# Altium footprint library GRC PCB library.PcbLib: 166 footprints (part 3 of 11)
Each footprint in its own frame and in the unit in brackets; x right, y up, seen from the top. Pads: shape width x height; smd on the part's side, far side on the other; paste and mask are expansions set on the pad; w line width, h text height; cw(c..) or ccw(c..) is an arc to the next point about the centre after c.
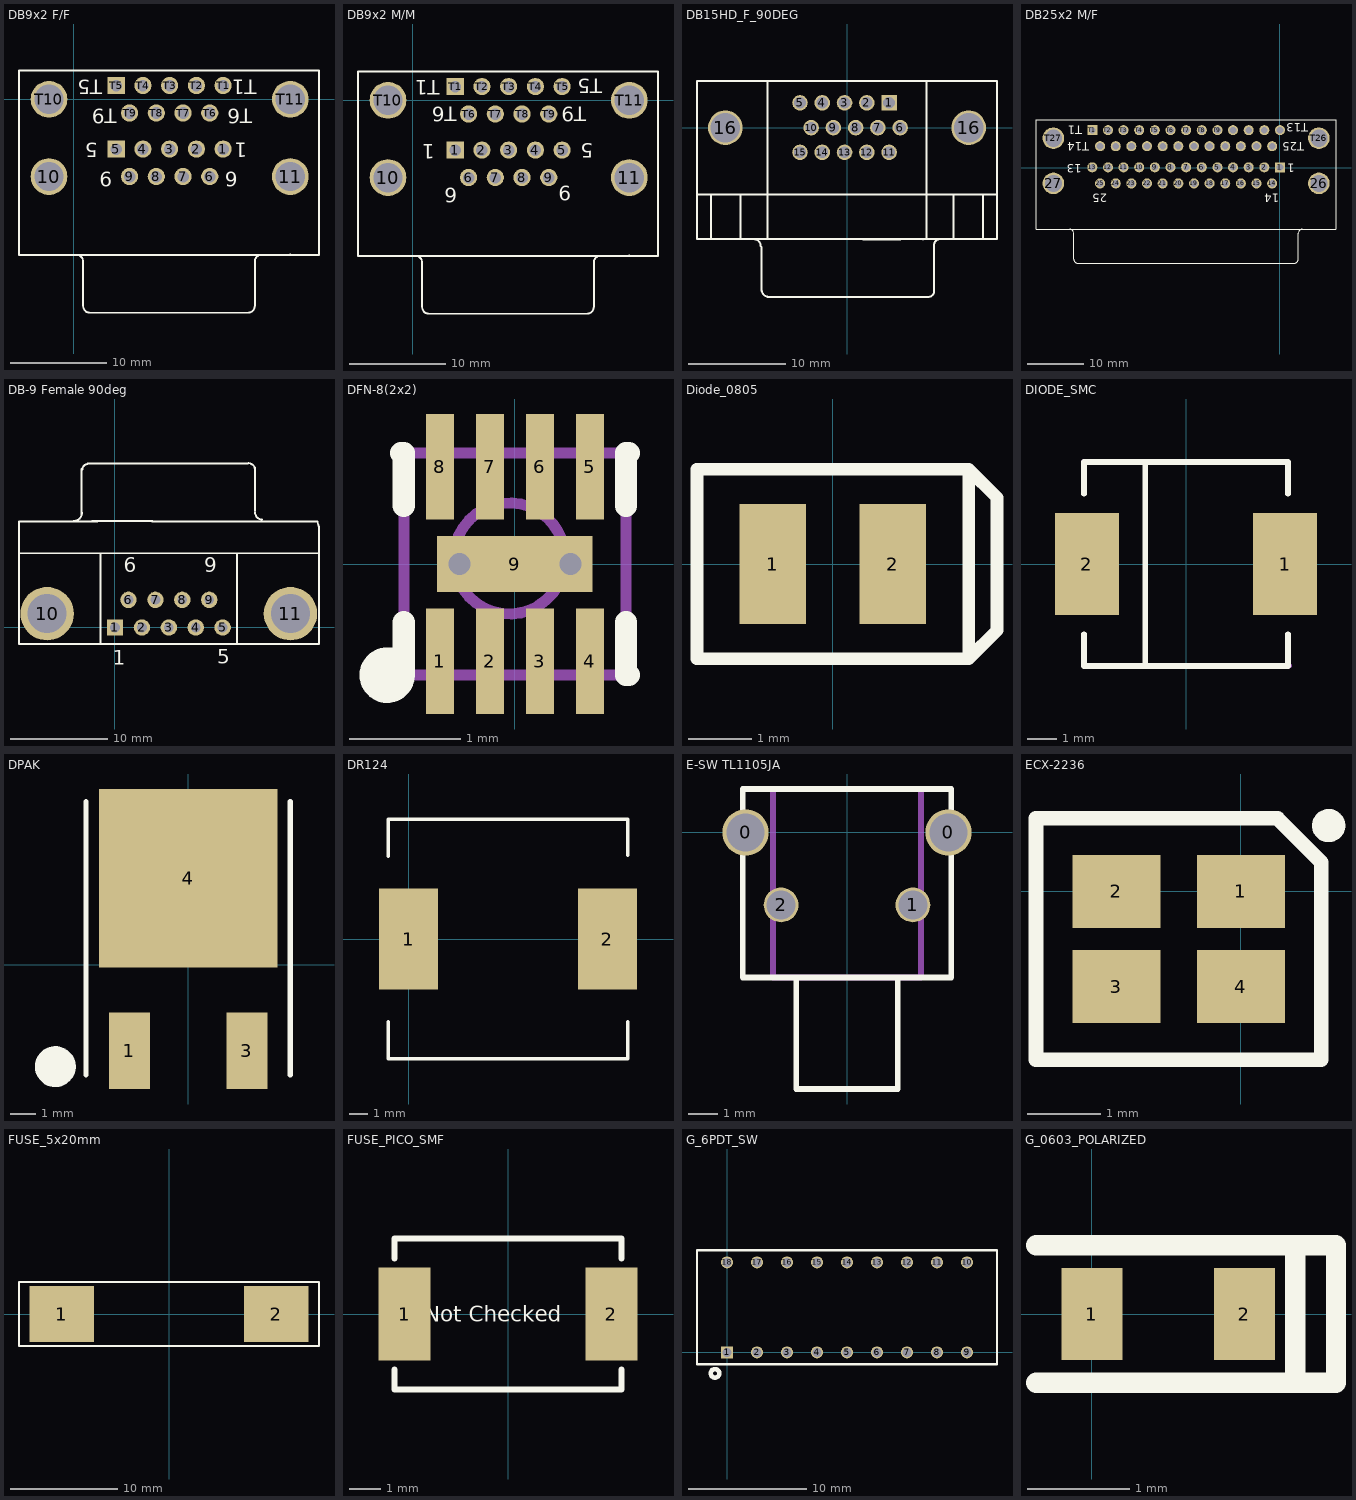
[diagram p2: the footprints below, top view; thin cyan lines are the x and y axes]

## DB9x2 F/F [mil] "Dual Port DB9 Female - Female Sub"
height 1250
pads (22):
  round 70 hole 47: 1(610,-203) 2(501,-203) 3(392,-203) 4(283,-203) 6(555.5,-315) 7(446.5,-315) 8(337.5,-315) 9(228.5,-315) T1(610,56) T2(501,56) T3(392,56) T4(283,56) T6(555.5,-56) T7(446.5,-56) T8(337.5,-56) T9(228.5,-56)
  rect 70x70 hole 47: 5(174,-203) T5(174,56)
  round 150 hole 120: 10(-100,-315) 11(884,-315) T10(-100,0) T11(884,0)
Top Overlay:
  lines w7.87: -222.3,116.96 1000.93,116.96 ; -221.91,-634.26 1000.93,-634.26 ; -221.89,-634.18 -221.89,117 ; 11.69,-634.38 cw(c11.69,-661.74) 39.06,-661.74 39.06,-842.84 ; 39.25,-843.04 ccw(c66.61,-843.04) 66.61,-870.4 ; 67.07,-870.4 711.56,-870.4 ccw(c711.56,-843.04) 738.92,-843.04 ; 739.12,-842.84 739.12,-661.74 ; 739.17,-661.62 cw(c766.54,-661.62) 766.54,-634.26 ; 883.86,-633 884,-632.86 ; 1000.93,-634.18 1000.93,117.39
  text "1" at 708.66,-177.17 h60
  text "T1" at 748.03,78.74 h60
  text "T5" at 118.11,78.74 h60
  text "5" at 98.43,-177.17 h60
  text "6" at 669.29,-295.28 h60
  text "9" at 157.48,-295.28 h60
  text "T6" at 728.35,-39.37 h60
  text "T9" at 177.17,-39.37 h60
Mechanical 13:
  text "FRONT" at 483.07,-586.22 h30

## DB9x2 M/M [mil] "Dual Port DB9 Male - Male Sub"
height 1250
pads (22):
  rect 70x70 hole 47: 1(174,-203) T1(174,56)
  round 70 hole 47: 2(283,-203) 3(392,-203) 4(501,-203) 5(610,-203) 6(228.5,-315) 7(337.5,-315) 8(446.5,-315) 9(555.5,-315) T2(283,56) T3(392,56) T4(501,56) T5(610,56) T6(228.5,-56) T7(337.5,-56) T8(446.5,-56) T9(555.5,-56)
  round 150 hole 120: 10(-100,-315) 11(884,-315) T10(-100,0) T11(884,0)
Top Overlay:
  lines w7.87: -222.3,116.96 1000.93,116.96 ; -221.91,-634.26 1000.93,-634.26 ; -221.89,-634.18 -221.89,117 ; 11.69,-634.38 cw(c11.69,-661.74) 39.06,-661.74 39.06,-842.84 ; 39.25,-843.04 ccw(c66.61,-843.04) 66.61,-870.4 ; 67.07,-870.4 711.56,-870.4 ccw(c711.56,-843.04) 738.92,-843.04 ; 739.12,-842.84 739.12,-661.74 ; 739.17,-661.62 cw(c766.54,-661.62) 766.54,-634.26 ; 883.86,-633 884,-632.86 ; 1000.93,-634.18 1000.93,117.39
  text "T9" at 707.87,-25.98 h60
  text "T6" at 179.53,-27.17 h60
  text "9" at 647.24,-348.43 h60
  text "6" at 182.28,-356.3 h60
  text "5" at 736.22,-175.2 h60
  text "T5" at 773.23,87.01 h60
  text "T1" at 111.42,81.89 h60
  text "1" at 90.94,-178.74 h60
Mechanical 13:
  text "FRONT" at 483.07,-586.22 h30

## DB15HD_F_90DEG [mil] "DB15 High Density 90deg Female receptacle"
height 496
pads (17):
  rect 63x63 hole 47 unplated: 1(170,100)
  round 63 hole 47 unplated: 2(80,100) 3(-10,100) 4(-100,100) 5(-190,100) 6(215,0) 7(125,0) 8(35,0) 9(-55,0) 10(-145,0) 11(170,-100) 12(80,-100) 13(-10,-100) 14(-100,-100) 15(-190,-100)
  round 140 hole 120: 16(-492,0) 16(492,0)
Top Overlay:
  lines w7.87: -606.5,-271 606.5,-271 ; -550,-451 -550,-271 ; -430,-451 -430,-271 ; -376.23,-451.15 cw(c-376.23,-478.51) -348.88,-479.28 ; -345.73,-660.38 -345.73,-483.21 ; -344.75,-656.44 ccw(c-317.39,-656.44) -317.39,-683.8 ; -322,-450 -322,188.5 ; -321.32,-684 328.28,-684 ; 64.5,-451.72 216.08,-451.72 ; 322,-450 322,188.5 ; 328.28,-684.75 ccw(c328.28,-660.38) 352.65,-660.38 ; 351.91,-660.38 351.91,-471.4 ; 351.91,-475.34 cw(c376.79,-475.34) 376.79,-450.46 ; 430,-451 430,-271 ; 550,-451 550,-271 ; -606.5,-451 606.5,-451 606.5,188.5 -606.5,188.5 -606.5,-451 ; 306.43,-451.72 306.43,-451.72

## DB25x2 M/F [mil] "DB25 stacked x2 Male over Female"
height 1153.54
pads (54):
  rect 70x70 hole 47 mask+4: 1(0.57,1.26) T1(-1307.42,260.26)
  round 70 hole 47 mask+4: 2(-108.42,1.26) 3(-217.43,1.26) 4(-326.43,1.26) 5(-435.43,1.26) 6(-544.42,1.26) 7(-653.42,1.26) 8(-762.42,1.26) 9(-871.42,1.26) 10(-980.42,1.26) 11(-1089.42,1.26) 12(-1198.42,1.26) 13(-1307.42,1.26) 14(-53.92,-110.74) 15(-162.93,-110.74) 16(-271.93,-110.74) 17(-380.93,-110.74) 18(-489.93,-110.74) 19(-598.92,-110.74) 20(-707.92,-110.74) 21(-816.92,-110.74) 22(-925.92,-110.74) 23(-1034.92,-110.74) 24(-1143.92,-110.74) 25(-1252.92,-110.74) T2(-1198.42,260.26) T3(-1089.42,260.26) T4(-980.42,260.26) T5(-871.42,260.26) T6(-762.42,260.26) T7(-653.42,260.26) T8(-544.42,260.26) T9(-435.43,260.26) T10(-326.43,260.26) T11(-217.43,260.26) T12(-108.42,260.26) T13(0.57,260.26) T14(-1252.92,148.26) T15(-1143.92,148.26) T16(-1034.92,148.26) T17(-925.92,148.26) T18(-816.92,148.26) T19(-707.92,148.26) T20(-598.92,148.26) T21(-489.93,148.26) T22(-380.93,148.26) T23(-271.93,148.26) T24(-162.93,148.26) T25(-53.92,148.26)
  round 150 hole 120 mask+4: 26(271.57,-110.74) 27(-1578.42,-110.74) T26(271.57,204.26) T27(-1578.42,204.26)
Top Overlay:
  lines w7.87: -1699.61,-430 390.94,-430 ; -1699.61,-429.92 -1699.61,331.22 390.95,331.22 390.95,-429.92 ; -1465.16,-430.12 cw(c-1465.16,-457.48) -1437.79,-457.48 -1437.79,-638.58 ; -1437.6,-638.78 ccw(c-1410.24,-638.78) -1410.24,-666.14 101.58,-666.14 ccw(c101.58,-638.78) 128.94,-638.78 ; 129.13,-638.58 129.13,-457.48 cw(c156.5,-457.48) 156.5,-430.12
  text "T13" at 198.03,307.48 h59.06
  text "T1" at -1375.98,292.52 h59.06
  text "1" at 103.15,27.17 h59.06
  text "13" at -1382.28,24.02 h59.06
  text "14" at -4.33,-184.65 h59.06
  text "25" at -1201.97,-184.65 h59.06
  text "T25" at 169.29,174.8 h59.06
  text "T14" at -1329.53,174.8 h59.06
Mechanical 13:
  text "Front" at -396.06,-355.12 h60

## DB-9 Female 90deg [mm] "Connector; D Subminiature; 9 Position; Right Angle; Pitch 1.385 mm"
height 12.75
pads (11):
  rect 1.69x1.69 hole 1: 1(0,0)
  round 1.69 hole 1: 2(2.771,0) 3(5.54,0) 4(8.299,0) 5(11.064,0) 6(1.385,2.84) 7(4.155,2.84) 8(6.925,2.84) 9(9.695,2.84)
  round 5.5 hole 4: 10(-6.98,1.42) 11(18.044,1.42)
Top Overlay:
  lines w0.2: -9.87,7.63 20.93,7.63 ; -4.258,10.942 ccw(c-4.258,11.8) -3.4,11.8 ; -3.425,11.6 -3.425,16.3 ; -3.353,16.247 cw(c-2.8,16.247) -2.8,16.8 ; -2.825,16.85 13.675,16.85 ; -2.345,10.95 0.075,10.95 ; -1.82,10.9 -9.87,10.9 -9.87,-1.7 20.975,-1.7 20.975,10.325 20.8,10.9 3.8,10.9 ; -1.5,-1.6 -1.47,7.63 ; 0.025,10.95 3.875,10.95 ; 12.53,-1.6 12.53,7.63 ; 13.705,16.895 cw(c13.705,16.2) 14.4,16.2 ; 14.395,11.95 14.395,16.45 ; 14.405,11.814 ccw(c15.1,11.795) 15.1,11.1
  text "1" at -0.22,-3.84 h1.5
  text "6" at 0.875,5.655 h1.5
  text "9" at 9.185,5.655 h1.5
  text "5" at 10.52,-3.745 h1.5

## DFN-8(2x2) [mm] "2mm x 2mm DFN package with exposed pad"
height 0.8
pads (9):
  rect 0.25x0.95 smd: 1(-0.675,-0.875) 2(-0.225,-0.875) 3(0.225,-0.875) 4(0.675,-0.875) 5(0.675,0.875) 6(0.225,0.875) 7(-0.225,0.875) 8(-0.675,0.875)
  rect 1.4x0.5 smd: 9(0,0)
via -0.5,0 diameter 0.4 hole 0.2
via 0.5,0 diameter 0.4 hole 0.2
Top Overlay:
  circle w0.25: c-1.15,-1 r0.125
  lines w0.2: -1.025,-1 -1,-1 -1,-0.525 ; -1.025,1 -1,1 -1,0.525 ; 1,-0.525 1,-1 1.025,-1 ; 1,0.525 1,1 1.025,1
Mechanical 13:
  circle w0.1: c-0.05,0.05 r0.5
  lines w0.1: -1,-1 -1,1 1,1 1,-1 -1,-1
3D body: height 0.8, standoff 0.01, extent -1,-1 1,1

## Diode_0805 [mm] "0805 SMD diode"
height 2
pads (2):
  rect 1.05x1.9 smd: 1(-0.95,0) 2(0.95,0)
Top Overlay:
  lines w0.2: 2.15,-1.5 2.15,1.5 ; 2.15,-1.5 -2.15,-1.5 -2.15,0 -2.15,1.5 2.15,1.5 ; 2.15,-1.5 2.6,-1.05 2.6,0 2.6,1.05 2.15,1.5

## DIODE_SMC [mm] "Magnetic-Core Inductor with Winding Polarity Marking; 2 Leads"
height 2.65
pads (2):
  rect 2.2x3.5 smd: 1(3.4,0) 2(-3.4,0)
Top Overlay:
  lines w0.2: -3.5,-3.5 3.5,-3.5 ; -3.5,-3.498 -3.5,-2.413 ; -3.5,2.413 -3.5,3.498 ; -3.5,3.5 3.5,3.5 ; -1.397,-3.5 -1.397,3.5 ; 3.5,-3.498 3.5,-2.413 ; 3.5,2.413 3.5,3.498
Mechanical 1:
  lines w0.2: -3.502,3.498 3.485,3.496 ; -3.477,-3.498 3.535,-3.496

## DPAK [mm] "D-PAK/TO-252-AA; 3 Leads (1 Cropped); Body 10.28 (inc. leads) x 6.7 mm (LxW max)"
height 2.4
pads (3):
  rect 1.6x3 smd: 1(-2.3,-3.375) 3(2.3,-3.375)
  rect 7x7 smd: 4(0,3.375)
Top Overlay:
  circle w1: c-5.2,-4 r0.3
  lines w0.2: -4,-4.325 -4,6.375 ; 4,-4.325 4,6.375

## DR124 [mm] "Coiltronics DR124 Series Inductor"
height 4.5
pads (2):
  rect 3.2x5.5 smd: 1(0,0) 2(10.8,0)
Top Overlay:
  lines w0.2: -1.1,-4.5 -1.1,-6.5 11.9,-6.5 11.9,-4.5 ; -1.1,4.5 -1.1,6.5 11.9,6.5 11.9,4.55

## E-SW TL1105JA [mm] "Thru-hole Push-Button E-Switch TL1105 series"
height 7
pads (4):
  round 1.6 hole 1.3: 0(-3.5,0) 0(3.5,0)
  round 1.2 hole 1: 1(2.275,-2.5) 2(-2.275,-2.5)
Top Overlay:
  lines w0.2: 1.75,-5 1.75,-8.85 -1.75,-8.85 ; -1.75,-8.85 -1.75,-5 -1.75,-8.85 ; -3.6,-5 -3.6,1.5 3.6,1.5 3.6,-5 -3.6,-5
Mechanical 13:
  lines w0.2: -2.55,-5 2.55,-5 2.55,1.5 -2.55,1.5 -2.55,-5

## ECX-2236 [mm]
height 0.6
pads (4):
  rect 1.2x1 smd: 1(0,0) 2(-1.7,0) 3(-1.7,-1.3) 4(0,-1.3)
Top Overlay:
  circle w0.254: c1.2,0.9 r0.1
  lines w0.2: -2.8,-2.3 -2.8,1 0.5,1 1.1,0.4 1.1,-1.3 1.1,-2.3 -2.8,-2.3

## FUSE_5x20mm [mm] "Fuse socket SMT 5x20mm"
height 7.5
pads (2):
  rect 6x5.2 smd: 1(-10,0) 2(10,0)
Top Overlay:
  lines w0.2: -14,-3 -14,3 14,3 14,-3 -14,-3

## FUSE_PICO_SMF [mil] "LittleFuse PICO SMF series SMT fuse"
height 122.05
pads (2):
  rect 65x117 smd: 1(-130,0) 2(130,0)
Top Overlay:
  lines w7.87: -142.5,-70 -142.5,-95 142.5,-95 142.5,-70 ; -142.5,70 -142.5,95 142.5,95 142.5,70
  text "Not Checked" at -105,-10 h19.68

## G_6PDT_SW [mil] "18pin DIL, 100mil pitch, 300mil space between rows"
height 150
pads (18):
  rect 40x40 hole 30: 1(0,0)
  round 40 hole 30: 2(100,0) 3(200,0) 4(300,0) 5(400,0) 6(500,0) 7(600,0) 8(700,0) 9(800,0) 10(800,300) 11(700,300) 12(600,300) 13(500,300) 14(400,300) 15(300,300) 16(200,300) 17(100,300) 18(0,300)
Top Overlay:
  circle w15: c-40,-70 r14.14
  lines w7.87: -100,-40 900,-40 900,340 -100,340 -100,-40

## G_0603_POLARIZED [mm] "Polarized 0603 footprint"
height 0.5
pads (2):
  rect 0.6x0.9 smd: 1(0,0) 2(1.5,0)
Top Overlay:
  lines w0.2: -0.55,-0.675 2.4,-0.675 2.4,0.675 -0.55,0.675 ; 2,-0.6 2,0.6